# Altium schematic symbol library BQ27441.SchLib: 1 symbol
Pins are listed as number, name and electrical type; pins without a type are passive.

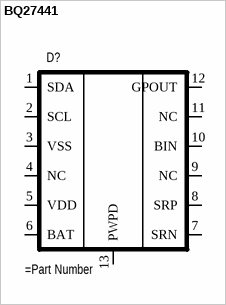
[diagram p0: symbol BQ27441]

## BQ27441
designator D?
System-Side Impedance Track™ Fuel Gauge
pins: 1 SDA, 2 SCL, 3 VSS, 4 NC, 5 VDD, 6 BAT, 7 SRN, 8 SRP, 9 NC, 10 BIN, 11 NC, 12 GPOUT, 13 PWPD